# Altium schematic symbol library IIM-42352.SchLib: 1 symbol
Pins are listed as number, name and electrical type; pins without a type are passive.

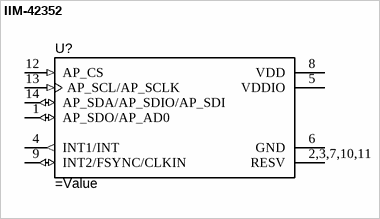
[diagram p0: symbol IIM-42352]

## IIM-42352
designator U?
COMPACT, LOW POWER 3-AXIS INDUST
pins: 1 AP_SDO/AP_AD0 (io), 2,3,7,10,11 RESV, 4 INT1/INT (out), 5 VDDIO (power), 6 GND (power), 8 VDD (power), 9 INT2/FSYNC/CLKIN (io), 12 AP_CS (in), 13 AP_SCL/AP_SCLK (in), 14 AP_SDA/AP_SDIO/AP_SDI (io)